# EAGLE library part ADAFRUIT-9-DOF (library RocketControlBoard)
Gyroscope + Accelerometer / Compass
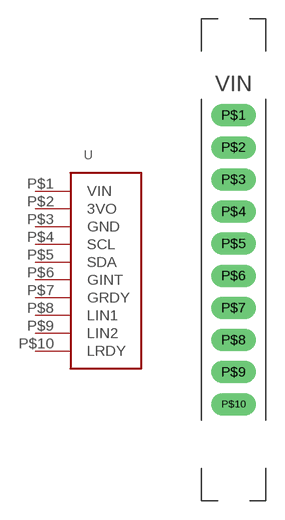
[diagram p11: symbol with the pads of ADAFRUIT-9-DOF; footprint ADAFRUIT-9-DOF]

Designator prefix -

## ADAFRUIT-9-DOF (MANF: Adafruit; URL: https://www.adafruit.com/products/1714)  [ADAFRUIT-9-DOF]
P$1  VIN
P$2  3VO
P$3  GND
P$4  SCL
P$5  SDA
P$6  GINT
P$7  GRDY
P$8  LIN1
P$9  LIN2
P$10  LRDY

## Footprint ADAFRUIT-9-DOF (pad centres in mm)
drill 1 pad 1.778 long: P$1 0,11.43; P$2 0,8.89; P$3 0,6.35; P$4 0,3.81; P$5 0,1.27; P$6 0,-1.27; P$7 0,-3.81; P$8 0,-6.35; P$9 0,-8.89; P$10 0,-11.43